# EAGLE library part 24AA256UID-I_SN (library SamacSys_Parts)
MICROCHIP - 24AA256UID-I/SN - EEPROM, 256 Kbit, 32K x 8bit, Serial I2C (2-Wire), 400 kHz, SOIC, 8 Pins Source: Datasheet <https://www.microchip.com/en-us/product/24AA256UID>
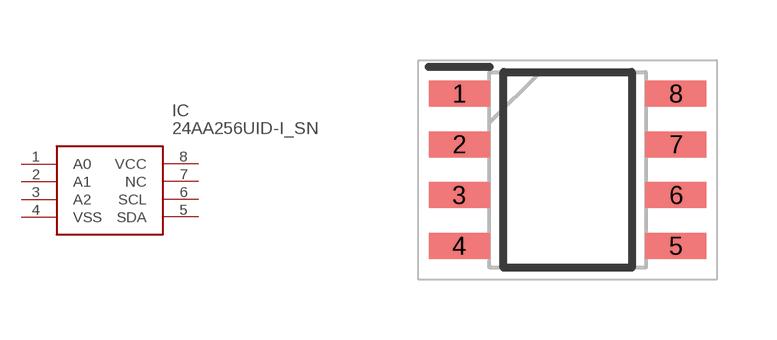
[diagram p33: symbol with the pads of SOIC127P600X175-8N; footprint SOIC127P600X175-8N]

Designator prefix IC

## 24AA256UID-I_SN (DESCRIPTION: MICROCHIP - 24AA256UID-I/SN - EEPROM, 256 Kbit, 32K x 8bit, Serial I2C (2-Wire), 400 kHz, SOIC, 8 Pins; HEIGHT: 1.75mm; MANUFACTURER_NAME: Microchip; MANUFACTURER_PART_NUMBER: 24AA256UID-I/SN; MOUSER_PART_NUMBER: 579-24AA256UID-I/SN; MOUSER_PRICE-STOCK: https://www.mouser.co.uk/ProductDetail/Microchip-Technology/24AA256UID-I-SN?qs=3i1%252BhB2xfwnIYN1p33JpsA%3D%3D)  [SOIC127P600X175-8N]
1  A0
2  A1
3  A2
4  VSS
5  SDA
6  SCL
7  NC  nc
8  VCC

## Footprint SOIC127P600X175-8N (pad centres in mm)
SO8N 8-lead plastic small outline, 150 mils body width
smd 1.525 x 0.65: 1 -2.712,1.905; 2 -2.712,0.635; 3 -2.712,-0.635; 4 -2.712,-1.905; 5 2.712,-1.905; 6 2.712,-0.635; 7 2.712,0.635; 8 2.712,1.905